# Altium footprint library LCC127P500X500X155-8N.PCBLIB: 1 footprints
Each footprint in its own frame and in the unit in brackets; x right, y up, seen from the top. Pads: shape width x height; smd on the part's side, far side on the other; paste and mask are expansions set on the pad; w line width, h text height; cw(c..) or ccw(c..) is an arc to the next point about the centre after c.
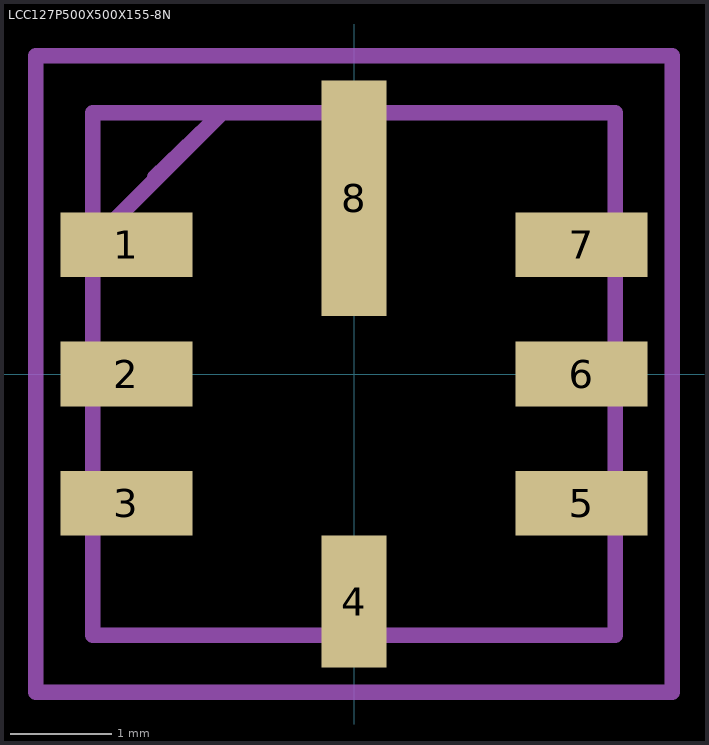
[diagram p0: the footprint, top view; thin cyan lines are the x and y axes]

## LCC127P500X500X155-8N [mil]
pads (8):
  rect 51x25 smd: 1(-88,50) 2(-88,0) 3(-88,-50) 5(88,-50) 6(88,0) 7(88,50)
  rect 25x51 smd: 4(0,-88)
  rect 25x91 smd: 8(0,68)
Assembly Top:
  lines w6: -101,-62 -101,-38 ; -101,-12 -101,12 ; -101,51 -51,101 ; -12,-101 12,-101 ; -12,101 12,101 ; 101,-62 101,-38 ; 101,-12 101,12 ; -101,-101 101,-101 101,101 -101,101 -101,-101
Mechanical 22:
  lines w6: -101,-76 -101,-101 -26,-101 ; -101,76 -101,101 -51,101 ; -77,76 -51,101 ; -26,101 -51,101 ; 26,-101 101,-101 101,-76 ; 26,101 101,101 101,76
Mechanical 30:
  lines w6: -123,-123 123,-123 123,123 -123,123 -123,-123